# EAGLE library part PI (library GoatFinder)
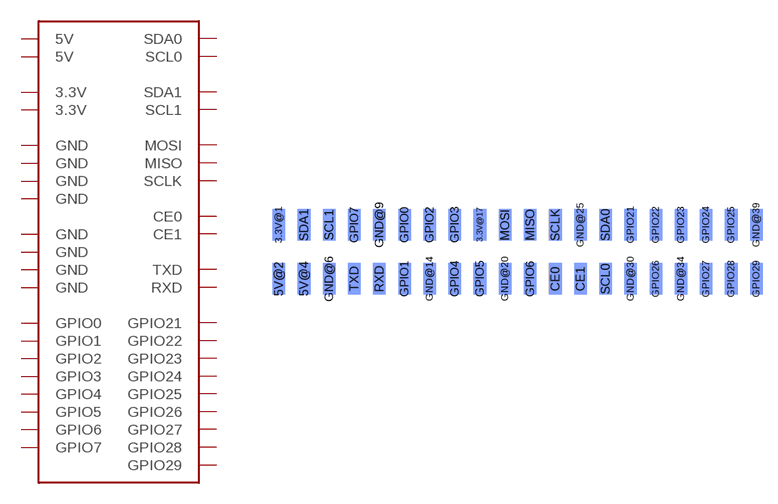
[diagram p6: symbol with the pads of PI_HEADER_SMD; footprint PI_HEADER_SMD]

Designator prefix -

## PI  [PI_HEADER_SMD]
3.3V@1  3.3V
3.3V@17  3.3V
5V@2  5V
5V@4  5V
CE0  CE0
CE1  CE1
GND@6  GND
GND@9  GND
GND@14  GND
GND@20  GND
GND@25  GND
GND@30  GND
GND@34  GND
GND@39  GND
GPIO0  GPIO0
GPIO1  GPIO1
GPIO2  GPIO2
GPIO3  GPIO3
GPIO4  GPIO4
GPIO5  GPIO5
GPIO6  GPIO6
GPIO7  GPIO7
GPIO21  GPIO21
GPIO22  GPIO22
GPIO23  GPIO23
GPIO24  GPIO24
GPIO25  GPIO25
GPIO26  GPIO26
GPIO27  GPIO27
GPIO28  GPIO28
GPIO29  GPIO29
MISO  MISO
MOSI  MOSI
RXD  RXD
SCL0  SCL0
SCL1  SCL1
SCLK  SCLK
SDA0  SDA0
SDA1  SDA1
TXD  TXD

## Footprint PI_HEADER_SMD (pad centres in mm)
smd 1.27 x 3.175 bottom: 3.3V@1 -24.13,2.54; 3.3V@17 -3.81,2.54; 5V@2 -24.13,-2.921; 5V@4 -21.59,-2.921; CE0 3.81,-2.921; CE1 6.35,-2.921; GND@6 -19.05,-2.921; GND@9 -13.97,2.54; GND@14 -8.89,-2.921; GND@20 -1.27,-2.921; GND@25 6.35,2.54; GND@30 11.43,-2.921; GND@34 16.51,-2.921; GND@39 24.13,2.54; GPIO0 -11.43,2.54; GPIO1 -11.43,-2.921; GPIO2 -8.89,2.54; GPIO3 -6.35,2.54; GPIO4 -6.35,-2.921; GPIO5 -3.81,-2.921; GPIO6 1.27,-2.921; GPIO7 -16.51,2.54; GPIO21 11.43,2.54; GPIO22 13.97,2.54; GPIO23 16.51,2.54; GPIO24 19.05,2.54; GPIO25 21.59,2.54; GPIO26 13.97,-2.921; GPIO27 19.05,-2.921; GPIO28 21.59,-2.921; GPIO29 24.13,-2.921; MISO 1.27,2.54; MOSI -1.27,2.54; RXD -13.97,-2.921; SCL0 8.89,-2.921; SCL1 -19.05,2.54; SCLK 3.81,2.54; SDA0 8.89,2.54; SDA1 -21.59,2.54; TXD -16.51,-2.921